# Altium schematic symbol library MAX_MAX15021ATI.SchLib: 1 symbol
Pins are listed as number, name and electrical type; pins without a type are passive.

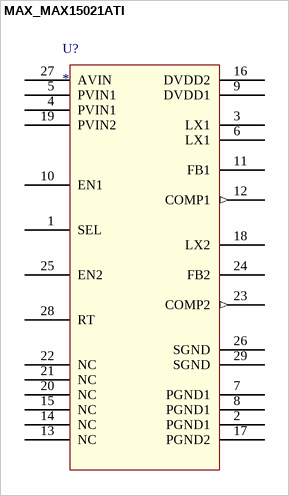
[diagram p0: symbol MAX_MAX15021ATI]

## MAX_MAX15021ATI
designator U?
pins: 1 SEL (power), 2 PGND1 (power), 3 LX1 (power), 4 PVIN1 (power), 5 PVIN1 (power), 6 LX1 (power), 7 PGND1 (power), 8 PGND1 (power), 9 DVDD1 (power), 10 EN1 (power), 11 FB1 (power), 12 COMP1 (out), 13 NC (power), 14 NC (power), 15 NC (power), 16 DVDD2 (power), 17 PGND2 (power), 18 LX2 (power), 19 PVIN2 (power), 20 NC (power), 21 NC (power), 22 NC (power), 23 COMP2 (out), 24 FB2 (power), 25 EN2 (power), 26 SGND (power), 27 AVIN (power), 28 RT (power), 29 SGND (power)